# EAGLE library part MTOP-14 (library con-amp)
AMP connector
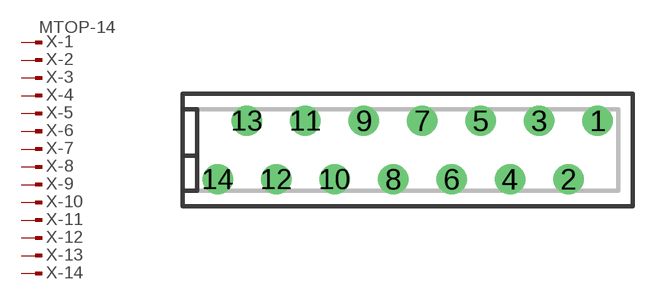
[diagram p89: symbol with the pads of MTOP-14; footprint MTOP-14]

Designator prefix X; gates -1=PIN-MV -2=PIN-M -3=PIN-M -4=PIN-M -5=PIN-M -6=PIN-M -7=PIN-M -8=PIN-M -9=PIN-M -10=PIN-M -11=PIN-M -12=PIN-M -13=PIN-M -14=PIN-M

## MTOP-14  [MTOP-14]
1  -1:1  pas
2  -2:1  pas
3  -3:1  pas
4  -4:1  pas
5  -5:1  pas
6  -6:1  pas
7  -7:1  pas
8  -8:1  pas
9  -9:1  pas
10  -10:1  pas
11  -11:1  pas
12  -12:1  pas
13  -13:1  pas
14  -14:1  pas

## Footprint MTOP-14 (pad centres in mm)
AMP connector
drill 0.813: 1 8.255,1.27; 2 6.985,-1.27; 3 5.715,1.27; 4 4.445,-1.27; 5 3.175,1.27; 6 1.905,-1.27; 7 0.635,1.27; 8 -0.635,-1.27; 9 -1.905,1.27; 10 -3.175,-1.27; 11 -4.445,1.27; 12 -5.715,-1.27; 13 -6.985,1.27; 14 -8.255,-1.27